# Altium schematic symbol library DDS.SchLib: 1 symbol
Pins are listed as number, name and electrical type; pins without a type are passive.

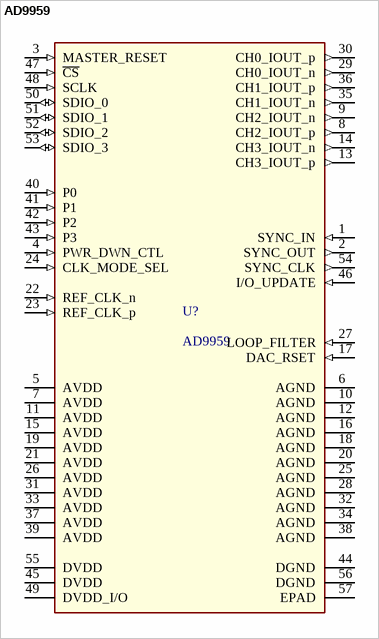
[diagram p0: symbol AD9959]

## AD9959
designator U?
4-Channel, 500 MSPS DDS / with 10-Bit DACs
footprint QFN AD9959
pins: 1 SYNC_IN (in) "Used to Synchronize Multiple AD9959 Devices. Connects to the SYNC_OUT pin of", 2 SYNC_OUT (out) "Used to Synchronize Multiple AD9959 Devices. Connects to the SYNC_IN pin of the", 3 MASTER_RESET (in) "Active High Reset Pin. Asserting the MASTER_RESET pin forces the AD9959 internal", 4 PWR_DWN_CTL (in) "External Power-Down Control.", 5 AVDD (power) "Analog Power Supply Pins (1.8 V).", 6 AGND (power) "Analog Ground Pins.", 7 AVDD (power) "Analog Power Supply Pins (1.8 V).", 8 CH2_IOUT_p (out) "True DAC Output. Terminates into AVDD.", 9 CH2_IOUT_n (out) "Complementary DAC Output. Terminates into AVDD.", 10 AGND (power) "Analog Ground Pins.", 11 AVDD (power) "Analog Power Supply Pins (1.8 V).", 12 AGND (power) "Analog Ground Pins.", 13 CH3_IOUT_p (out) "True DAC Output. Terminates into AVDD.", 14 CH3_IOUT_n (out) "Complementary DAC Output. Terminates into AVDD.", 15 AVDD (power) "Analog Power Supply Pins (1.8 V).", 16 AGND (power) "Analog Ground Pins.", 17 DAC_RSET (in) "Establishes the Reference Current for All DACs. A 1.91 kΩ resistor (nominal) is", 18 AGND (power) "Analog Ground Pins.", 19 AVDD (power) "Analog Power Supply Pins (1.8 V).", 20 AGND (power) "Analog Ground Pins.", 21 AVDD (power) "Analog Power Supply Pins (1.8 V).", 22 REF_CLK_n (in) "Complementary Reference Clock/Oscillator Input. When the REF_CLK is operated", 23 REF_CLK_p (in) "Reference Clock/Oscillator Input. When the REF_CLK is operated in single-ended", 24 CLK_MODE_SEL (in) "Control Pin for the Oscillator Section. Caution: Do not drive this pin beyond 1.8 V. When high (1.8 V), the oscillator section is enabled to accept a crystal as the", 25 AGND (power) "Analog Ground Pins.", 26 AVDD (power) "Analog Power Supply Pins (1.8 V).", 27 LOOP_FILTER (in) "Connects to the external zero compensation network of the PLL loop filter.", 28 AGND (power) "Analog Ground Pins.", 29 CH0_IOUT_n (out) "Complementary DAC Output. Terminates into AVDD.", 30 CH0_IOUT_p (out) "True DAC Output. Terminates into AVDD.", 31 AVDD (power) "Analog Power Supply Pins (1.8 V).", 32 AGND (power) "Analog Ground Pins.", 33 AVDD (power) "Analog Power Supply Pins (1.8 V).", 34 AGND (power) "Analog Ground Pins.", 35 CH1_IOUT_n (out), 36 CH1_IOUT_p (out), 37 AVDD (power) "Analog Power Supply Pins (1.8 V).", 38 AGND (power) "Analog Ground Pins.", 39 AVDD (power) "Analog Power Supply Pins (1.8 V).", 40 P0 (in) "Data pins used for modulation (FSK, PSK, ASK), to start/stop the sweep accumulators or used to ramp up/ramp down the output amplitude. The data is synchronous to the SYNC_CLK (Pin 54). The data inputs must meet the setup and hold time", 41 P1 (in) "Data pins used for modulation (FSK, PSK, ASK), to start/stop the sweep accumulators or used to ramp up/ramp down the output amplitude. The data is synchronous to the SYNC_CLK (Pin 54). The data inputs must meet the setup and hold time", 42 P2 (in) "Data pins used for modulation (FSK, PSK, ASK), to start/stop the sweep accumulators or used to ramp up/ramp down the output amplitude. The data is synchronous to the SYNC_CLK (Pin 54). The data inputs must meet the setup and hold time", 43 P3 (in) "Data pins used for modulation (FSK, PSK, ASK), to start/stop the sweep accumulators or used to ramp up/ramp down the output amplitude. The data is synchronous to the SYNC_CLK (Pin 54). The data inputs must meet the setup and hold time", 44 DGND "Digital Power Ground Pins.", 45 DVDD (power) "Digital Power Supply Pins (1.8 V).", 46 I/O_UPDATE (in) "A rising edge transfers data from the serial I/O port buffer to active registers. I/O_UPDATE is synchronous to the SYNC_CLK (Pin 54). I/O_UPDATE must meet the", 47 ~{CS} (in) "Active Low Chip Select. Allows multiple devices to share a common I/O bus (SPI).", 48 SCLK (in) "Serial Data Clock for I/O Operations. Data bits are written on the rising edge of", 49 DVDD_I/O (power) "3.3 V Digital Power Supply for SPI Port and Digital I/O.", 50 SDIO_0 (io) "Data Pin SDIO_0 is dedicated to the serial port I/O only.", 51 SDIO_1 (io) "Data Pin SDIO_1 and Data Pin SDIO_2 can be used for the serial I/O port or used to initiate a ramp-up/ramp-down (RU/RD) of the DAC output amplitude.", 52 SDIO_2 (io) "Data Pin SDIO_1 and Data Pin SDIO_2 can be used for the serial I/O port or used to initiate a ramp-up/ramp-down (RU/RD) of the DAC output amplitude.", 53 SDIO_3 (io) "Data Pin SDIO_3 can be used for the serial I/O port or to initiate a ramp-up/ramp-down (RU/RD) of the DAC output amplitude. In single-bit or 2-bit modes, SDIO_3 is used", 54 SYNC_CLK (out) "The SYNC_CLK runs at one-fourth the system clock rate; it can be disabled. I/O_UPDATE or data (Pin 40 to Pin 43) is synchronous to the SYNC_CLK. To guarantee a fixed pipeline delay of data to DAC output, I/O_UPDATE or data (Pin 40 to Pin 43) must meet the", 55 DVDD (power) "Digital Power Supply Pins (1.8 V).", 56 DGND "Digital Power Ground Pins.", 57 EPAD